# EAGLE library part UPG2422TK (library custom)
RF SPDT Switch 0.05-6GHz 28dB Isolation 0.55dB IL 31dBm P1dB
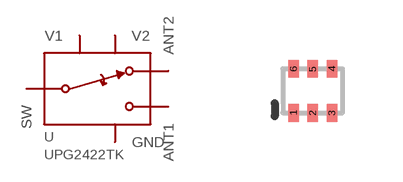
[diagram p119: symbol with the pads of 6-MINIMOLD; footprint 6-MINIMOLD]

Designator prefix U

## UPG2422TK  [6-MINIMOLD]
1  ANT1
2  GND
3  ANT2
4  V2
5  SW
6  V1

## Footprint 6-MINIMOLD (pad centres in mm)
smd 0.26 x 0.45: 1 -0.48,-0.55; 2 0,-0.55; 3 0.48,-0.55; 4 0.48,0.55; 5 0,0.55; 6 -0.48,0.55